# EAGLE library part FS_RADIO (library quadcopter_comp)
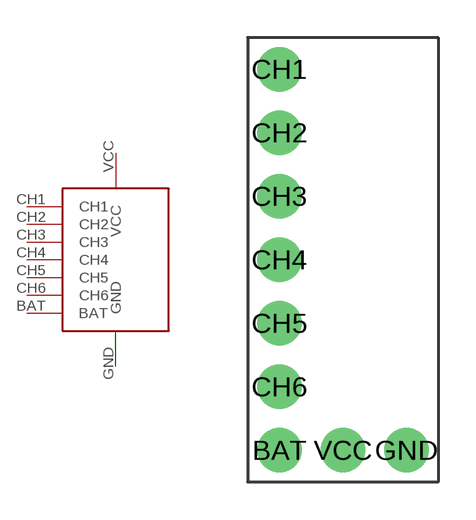
[diagram p3: symbol with the pads of FS_RADIO; footprint FS_RADIO]

Designator prefix -

## FS_RADIO  [FS_RADIO]
BAT  BAT
CH1  CH1
CH2  CH2
CH3  CH3
CH4  CH4
CH5  CH5
CH6  CH6
GND  GND
VCC  VCC

## Footprint FS_RADIO (pad centres in mm)
drill 0.8 pad 1.778: BAT -2.54,-7.62; CH1 -2.54,7.62; CH2 -2.54,5.08; CH3 -2.54,2.54; CH4 -2.54,0; CH5 -2.54,-2.54; CH6 -2.54,-5.08; GND 2.54,-7.62; VCC 0,-7.62